# EAGLE library part DM3CS-SF-PEJMS (library DM3CS-SF-PEJMS)
Memory Card Connectors 8P R/A SMT MICRO SD HINGE PUSH-PULL Source: Datasheet
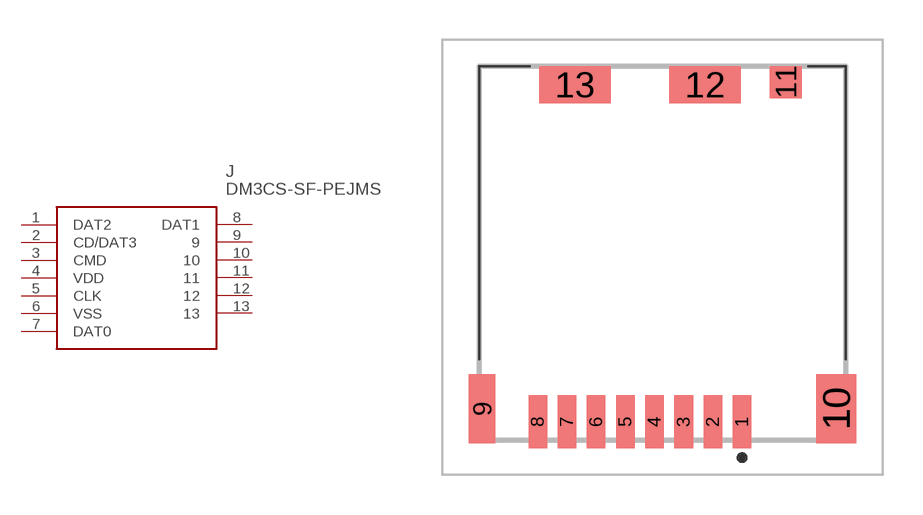
[diagram p0: symbol with the pads of DM3CSSFPEJMS; footprint DM3CSSFPEJMS]

Designator prefix J

## DM3CS-SF-PEJMS (Description: Memory Card Connectors 8P R/A SMT MICRO SD HINGE PUSH-PULL; Height: 1.83mm; Manufacturer_Name: Hirose; Manufacturer_Part_Number: DM3CS-SF-PEJMS)  [DM3CSSFPEJMS]
1  DAT2
2  CD/DAT3
3  CMD
4  VDD
5  CLK
6  VSS
7  DAT0
8  DAT1
9  9
10  10
11  11
12  12
13  13

## Footprint DM3CSSFPEJMS (pad centres in mm)
DM3CS-SF-PEJMS-1
smd 0.7 x 2: 1 3,-6.35; 2 1.9,-6.35; 3 0.8,-6.35; 4 -0.3,-6.35; 5 -1.4,-6.35; 6 -2.5,-6.35; 7 -3.6,-6.35; 8 -4.7,-6.35
smd 1 x 2.6: 9 -6.8,-5.85
smd 1.5 x 2.6: 10 6.55,-5.85
smd 1.2 x 1.2: 11 4.65,6.45
smd 2.7 x 1.4: 12 1.6,6.35; 13 -3.3,6.35